# EAGLE library part MOLEX-67068-9000 (library CC11x)
http://onecall.farnell.com/molex/67068-9000/usb-2-0-type-b-receptacle-th/dp/1463094
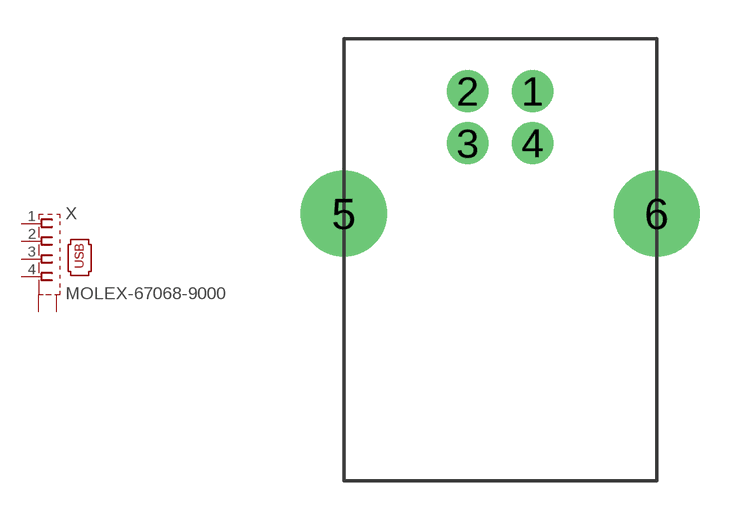
[diagram p15: symbol with the pads of MOLEX-67068-9000; footprint MOLEX-67068-9000]

Designator prefix X

## MOLEX-67068-9000 (ONECALL: 1463094)  [MOLEX-67068-9000]
1  1  pas
2  2  pas
3  3  pas
4  4  pas
5  S1  pas
6  S2  pas

## Footprint MOLEX-67068-9000 (pad centres in mm)
drill 0.92 pad 1.6: 1 1.25,4.71; 2 -1.25,4.71; 3 -1.25,2.71; 4 1.25,2.71
drill 2.3: 5 -6.02,0; 6 6.02,0